# Altium footprint library RC.PcbLib: 42 footprints (part 3 of 3)
Each footprint in its own frame and in the unit in brackets; x right, y up, seen from the top. Pads: shape width x height; smd on the part's side, far side on the other; paste and mask are expansions set on the pad; w line width, h text height; cw(c..) or ccw(c..) is an arc to the next point about the centre after c.
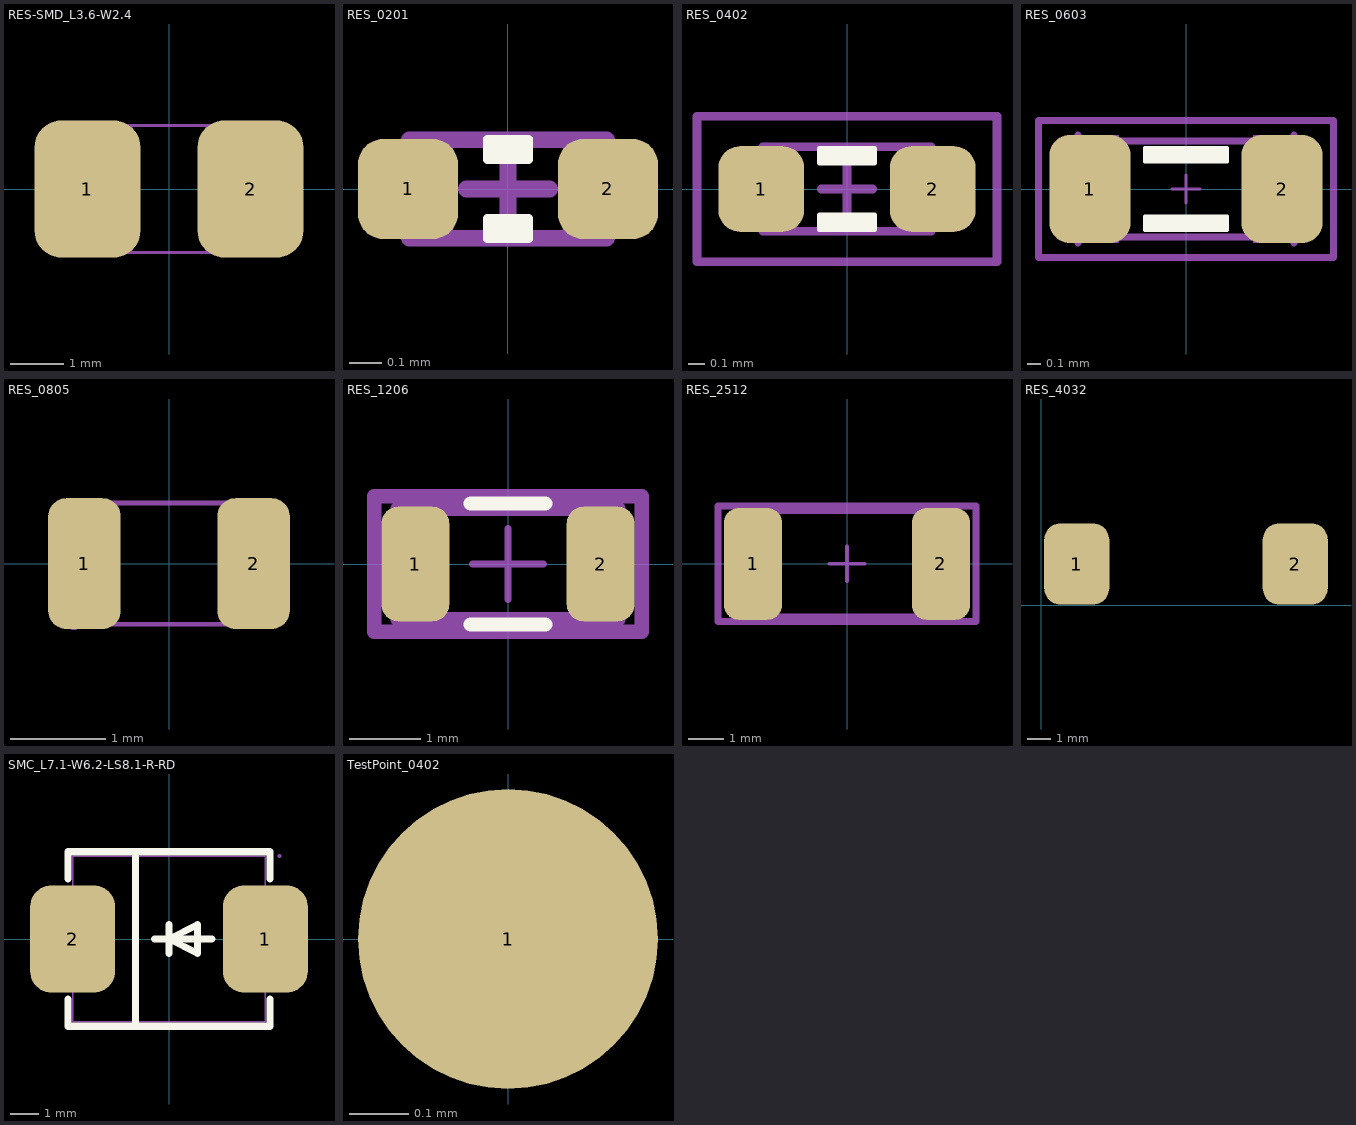
[diagram p2: the footprints below, top view; thin cyan lines are the x and y axes]

## RES-SMD_L3.6-W2.4 [mm] "贴片光敏"
pads (2):
  rrect50% 2x2.592 smd: 1(-1.542,0) 2(1.542,0)
Mechanical 15:
  region: 0.7,-1.2 1.8,-1.2 1.8,1.2 0.7,1.2
  region: -1.8,-1.2 -0.7,-1.2 -0.7,1.2 -1.8,1.2
  region: -1.74,-1.2 -1.741,-1.175 -1.776,-1.141 -1.825,-1.141 -1.86,-1.175 -1.86,-1.2 -1.86,-1.224 -1.825,-1.259 -1.776,-1.259 -1.741,-1.224 -1.74,-1.2
  lines w0.051: -1.8,-1.2 -1.8,1.2 1.8,1.2 1.8,-1.2 -1.8,-1.2

## RES_0201 [mil]
pads (2):
  rrect50% 12x12 smd mask+4: 1(-12,0) 2(12,0)
Top Overlay:
  region: 2.5,-6 -2.5,-6 -2.5,-3.5 2.5,-3.5
  region: -2.5,6 2.5,6 2.5,3.5 -2.5,3.5
  lines w1: -2.5,-6 -2.5,-3.5 2.5,-3.5 2.5,-6 -2.5,-6 ; -2.5,3.5 2.5,3.5 2.5,6 -2.5,6 -2.5,3.5
Mechanical 1:
  lines w2: -5,0 5,0 ; 0,-5 0,5 ; -11.81,-5.91 -11.81,5.91 11.81,5.91 11.81,-5.91 -11.81,-5.91
3D body "R0201.step": height 12.8, standoff 0, extent -13.39,-6.5 13.39,6.5

## RES_0402 [mil] "RES_0402"
pads (2):
  rrect50% 20x20 smd: 1(-20,0) 2(20,0)
Top Overlay:
  region: 6.5,-9.5 -6.5,-9.5 -6.5,-6 6.5,-6
  region: -6.5,9.5 6.5,9.5 6.5,6 -6.5,6
  lines w1: -6.5,-9.5 -6.5,-6 6.5,-6 6.5,-9.5 -6.5,-9.5 ; -6.5,6 6.5,6 6.5,9.5 -6.5,9.5 -6.5,6
Mechanical 13:
  lines w2: -6,0 6,0 ; 0,-6 0,6 ; -19.69,-9.84 19.68,-9.84 19.68,9.84 -19.69,9.84 -19.69,-9.84
Mechanical 14:
  lines w2: -35,-17 -35,17 35,17 35,-17 -35,-17
3D body "RESC1005X03L.step": height 13.78, standoff 0, extent -19.68,-9.84 19.69,9.85

## RES_0603 [mm]
pads (2):
  rrect50% 0.6x0.8 smd mask+0.051: 1(-0.711,0) 2(0.711,0)
Top Overlay:
  region: -0.305,-0.305 -0.305,-0.203 0.305,-0.203 0.305,-0.305
  region: -0.305,0.203 -0.305,0.305 0.305,0.305 0.305,0.203
  lines w0.025: -0.305,-0.305 -0.305,-0.203 0.305,-0.203 0.305,-0.305 -0.305,-0.305 ; -0.305,0.203 -0.305,0.305 0.305,0.305 0.305,0.203 -0.305,0.203
Mechanical 13:
  lines w0.025: -0.102,0 0.102,0 ; 0,-0.102 0,0.102
  lines w0.051: -0.813,-0.356 0.787,-0.356 ; -0.813,0.356 0.787,0.356
Mechanical 14:
  lines w0.051: -1.092,-0.508 -1.092,0.508 1.092,0.508 1.092,-0.508 -1.092,-0.508
Mechanical 15:
  region: -0.8,-0.4 -0.8,0.4 -0.5,0.4 -0.5,-0.4
  region: 0.8,-0.4 0.8,0.4 0.5,0.4 0.5,-0.4
  lines w0.051: -0.8,-0.4 -0.8,0.4 ; 0.8,-0.4 0.8,0.4
3D body "R0603.step": height 0.44, standoff -0.01, extent -0.81,-0.41 0.81,0.4

## RES_0805 [mil]
pads (2):
  rrect50% 30x54.21 smd mask+2: 1(-35,0) 2(35,0)
Mechanical 15:
  region: -37.01,-25.1 -37.01,-24.12 -38.39,-22.74 -40.35,-22.74 -41.73,-24.12 -41.73,-25.1 -41.73,-26.08 -40.35,-27.46 -38.39,-27.46 -37.01,-26.08 -37.01,-25.1
  region: -39.37,-25.1 -39.37,25.1 -23.62,25.1 -23.62,-25.1
  region: 39.37,-25.1 39.37,25.1 23.62,25.1 23.62,-25.1
  lines w2: -39.37,-25.1 -39.37,25.1 39.37,25.1 39.37,-25.1 -39.37,-25.1
3D body "0805.step": height 21.65, standoff 0, extent -39.37,-23.62 39.37,23.62

## RES_1206 [mm] "RES_1206"
pads (2):
  rrect50% 0.956x1.61 smd paste+0 mask+0: 1(-1.301,0) 2(1.301,0)
Top Overlay:
  lines w0.2: -0.523,-0.85 0.523,-0.85 ; -0.523,0.85 0.523,0.85
Mechanical 10:
  lines w0.2: -1.879,-0.95 1.879,-0.95 1.879,0.95 -1.879,0.95 -1.879,-0.95
Mechanical 12:
  lines w0.2: -1.55,-0.775 1.55,-0.775 1.55,0.775 -1.55,0.775 -1.55,-0.775
Mechanical 15:
  lines w0.1: -0.5,0 0.5,0 ; 0,-0.5 0,0.5
  lines w0.2: -1.879,-0.95 -1.879,0.95 1.879,0.95 1.879,-0.95 -1.879,-0.95
3D body "Res_TE_CRGP1206F1K2_eec.step": height 0.65, standoff 0, extent -1.55,-0.775 1.55,0.775

## RES_2512 [mil] "2512分流器采样电阻"
pads (2):
  rrect50% 65x126 smd mask+2: 1(-105.72,0) 2(105.72,0)
Mechanical 10:
  lines w7.87: -145,-65 -145,65 145,65 145,-65 -145,-65
Mechanical 12:
  lines w7.87: -125,-60 -125,60 125,60 125,-60 -125,-60
Mechanical 15:
  region: 100.39,-62.99 100.39,62.99 124.02,62.99 124.02,-62.99
  region: -124.02,-62.99 -124.02,62.99 -100.39,62.99 -100.39,-62.99
  region: -122.64,-62.99 -122.64,-62.01 -124.02,-60.63 -125.98,-60.63 -127.36,-62.01 -127.36,-62.99 -127.36,-63.97 -125.98,-65.35 -124.02,-65.35 -122.64,-63.97 -122.64,-62.99
  lines w2: -124.02,-62.99 124.02,-62.99 124.02,62.99 -124.02,62.99 -124.02,-62.99
  lines w3.94: -19.68,0 19.68,0 ; 0,-19.68 0,19.68
  lines w7.87: -145,-65 -145,65 145,65 145,-65 -145,-65
3D body "R2512.step": height 39.37, standoff 0, extent -124.02,-61.02 124.02,61.02

## RES_4032 [mm]
pads (2):
  rrect50% 2.8x3.5 smd mask+0.051: 1(1.524,1.778) 2(10.922,1.778)
3D body "YAMIN.step": height 3.53, standoff 0.03, extent 1.123,-2.349 11.323,5.651

## SMC_L7.1-W6.2-LS8.1-R-RD [mm]
pads (2):
  rrect50% 3.03x3.82 smd paste+0 mask+0.051: 1(3.435,0) 2(-3.435,0)
Top Overlay:
  lines w0.254: -3.6,-2.141 -3.6,-3.11 3.6,-3.11 3.6,-2.141 ; -3.6,2.141 -3.6,3.11 3.6,3.11 3.6,2.141 ; -1.192,-3.11 -1.192,3.11 ; -0.508,0 1.524,0 ; 0,0.508 0,-0.508 0,0 ; 0,0 1.016,0.508 1.016,-0.508 0,0
Mechanical 6:
  region: -4.33,0.254 -2.552,0.254 -2.552,-0.254 -4.33,-0.254
  region: 3.181,-0.895 3.181,0.883 3.689,0.883 3.689,-0.895
  region: 2.54,0.254 4.318,0.254 4.318,-0.254 2.54,-0.254
Mechanical 15:
  region: 2.928,1.475 3.943,1.475 3.943,-1.475 2.928,-1.475
  region: -2.928,-1.475 -3.943,-1.475 -3.943,1.475 -2.928,1.475
  region: 4.003,2.952 4.003,2.977 3.968,3.012 3.918,3.012 3.883,2.977 3.883,2.952 3.883,2.927 3.918,2.892 3.968,2.892 4.003,2.927 4.003,2.952
  lines w0.051: -3.428,-2.952 -3.428,2.952 3.428,2.952 3.428,-2.952 -3.428,-2.952

## TestPoint_0402 [mil]
pads (1):
  round 20 smd: 1(0,0)